# Altium schematic symbol library NE555P.SchLib: 1 symbol
Pins are listed as number, name and electrical type; pins without a type are passive.

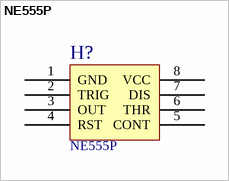
[diagram p0: symbol NE555P]

## NE555P
designator H?
pins: 1 GND, 2 TRIG, 3 OUT, 4 RST, 5 CONT, 6 THR, 7 DIS, 8 VCC